# Altium footprint library JT2.PcbLib: 1 footprints
Each footprint in its own frame and in the unit in brackets; x right, y up, seen from the top. Pads: shape width x height; smd on the part's side, far side on the other; paste and mask are expansions set on the pad; w line width, h text height; cw(c..) or ccw(c..) is an arc to the next point about the centre after c.
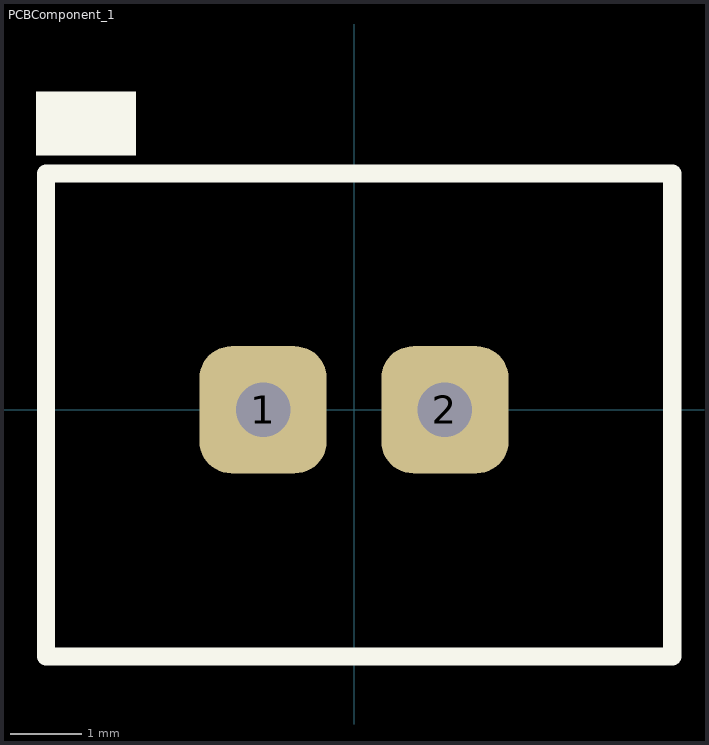
[diagram p0: the footprint, top view; thin cyan lines are the x and y axes]

## PCBComponent_1 [mil]
pads (2):
  rrect50% 70x70 hole 30: 1(-50,0) 2(50,0)
Top Overlay:
  rectangle: -175,140 -120,175
  rectangle: -155,160 -145,165
  lines w10: -169.33,-135.59 175,-135.59 175,130 -169.33,130 -169.33,-135.59